# Altium footprint library PCB - DIODES - DIOM4227X23N.PCBLIB: 1 footprints
Each footprint in its own frame and in the unit in brackets; x right, y up, seen from the top. Pads: shape width x height; smd on the part's side, far side on the other; paste and mask are expansions set on the pad; w line width, h text height; cw(c..) or ccw(c..) is an arc to the next point about the centre after c.
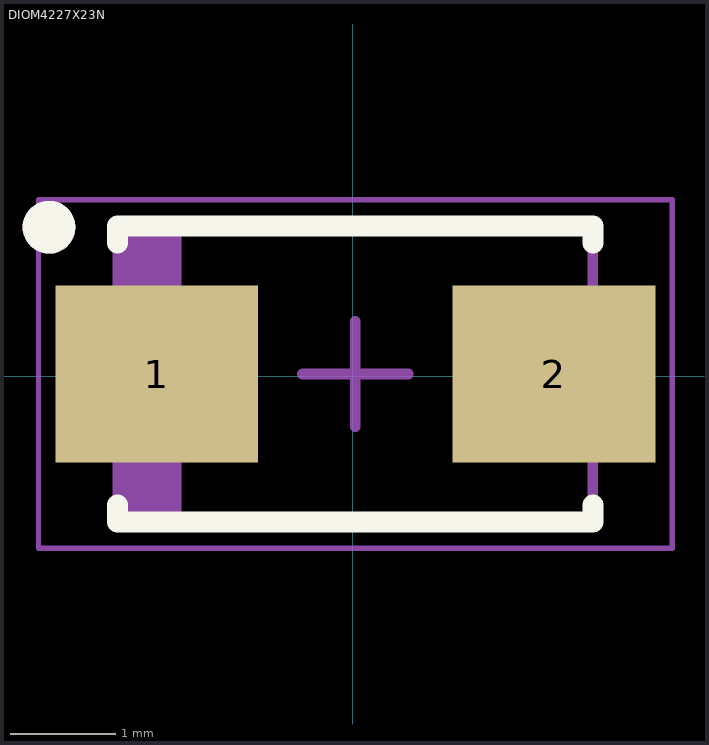
[diagram p0: the footprint, top view; thin cyan lines are the x and y axes]

## DIOM4227X23N [mm] "Molded Diode, 2-Leads, Body 4,25x2,67mm, IPC Medium Density"
pads (2):
  rect 1.92x1.68 smd: 1(-1.854,0.023) 2(1.906,0.023)
Top Overlay:
  circle w0.25: c-2.874,1.413 r0.125
  lines w0.2: -2.224,-1.217 -2.224,-1.377 2.276,-1.377 2.276,-1.217 ; -2.224,1.263 -2.224,1.423 2.276,1.423 2.276,1.263
Top Assembly:
  circle w0.25: c-2.874,1.413 r0.125
  rectangle: -2.224,-1.372 -1.619,1.418
  lines w0.1: -2.224,-1.372 -2.224,1.418 2.276,1.418 2.276,-1.372 -2.224,-1.372
Top Courtyard:
  lines w0.05: -2.974,-1.627 3.026,-1.627 3.026,1.673 -2.974,1.673 -2.974,-1.627
Top Designator:
  text ".Designator" at -2.888,-2.512 h1
Top Component Center:
  lines w0.1: -0.474,0.023 0.526,0.023 ; 0.026,-0.477 0.026,0.523
Top Value:
  text ".Comment" at -2.921,1.916 h1
3D body "DIOM4227X23N.step": height 2.29, standoff 0, extent -2.444,-1.372 2.496,1.418